# Altium footprint library SAMTEC_HW-08-08-F-D-330-SM.PcbLib: 1 footprints
Each footprint in its own frame and in the unit in brackets; x right, y up, seen from the top. Pads: shape width x height; smd on the part's side, far side on the other; paste and mask are expansions set on the pad; w line width, h text height; cw(c..) or ccw(c..) is an arc to the next point about the centre after c.
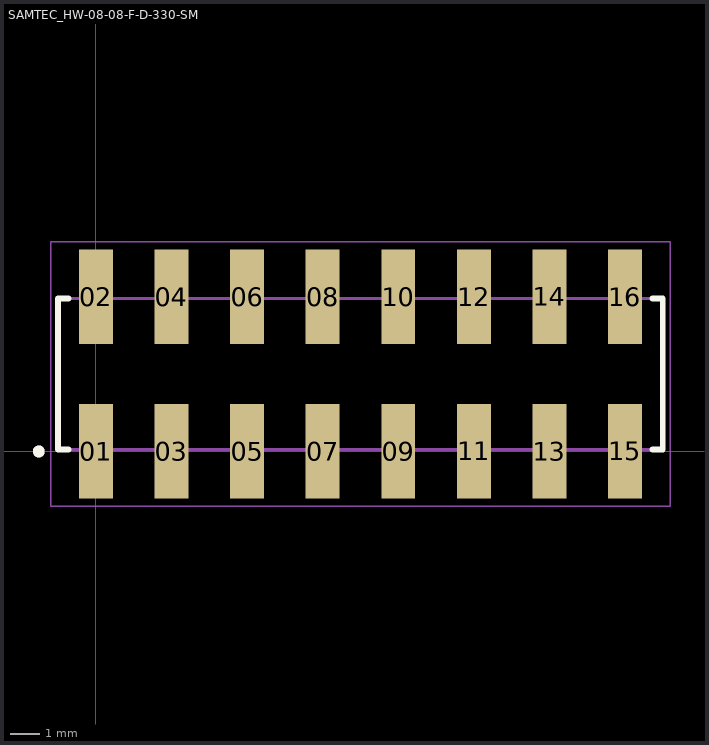
[diagram p0: the footprint, top view; thin cyan lines are the x and y axes]

## SAMTEC_HW-08-08-F-D-330-SM [mm]
pads (16):
  rect 1.14x3.175 smd: 01(0,0) 02(0,5.205) 03(2.54,0) 04(2.54,5.205) 05(5.08,0) 06(5.08,5.205) 07(7.62,0) 08(7.62,5.205) 09(10.16,0) 10(10.16,5.205) 11(12.7,0) 12(12.7,5.205) 13(15.24,0) 14(15.24,5.205) 15(17.78,0) 16(17.78,5.205)
Top Overlay:
  circle w0.2: c-1.92,0 r0.1
  lines w0.2: -0.92,0.062 -1.27,0.062 -1.27,5.143 -0.92,5.143 ; 18.7,0.062 19.05,0.062 19.05,5.143 18.7,5.143
Mechanical 13:
  circle w0.2: c-1.92,0 r0.1
  lines w0.1: -1.27,0.062 -1.27,5.143 ; -1.27,0.062 19.05,0.062 ; -1.27,0.062 -1.27,5.143 ; -1.27,5.143 19.05,5.143 ; -1.27,5.143 19.05,5.143 ; 19.05,0.062 19.05,5.143 ; 19.05,0.062 19.05,5.143
Mechanical 15:
  lines w0.05: -1.52,-1.837 -1.52,7.043 19.3,7.043 19.3,-1.837 -1.52,-1.837